# EAGLE library part IC_UC_PIC18FJ2*50 (library dp_devices)
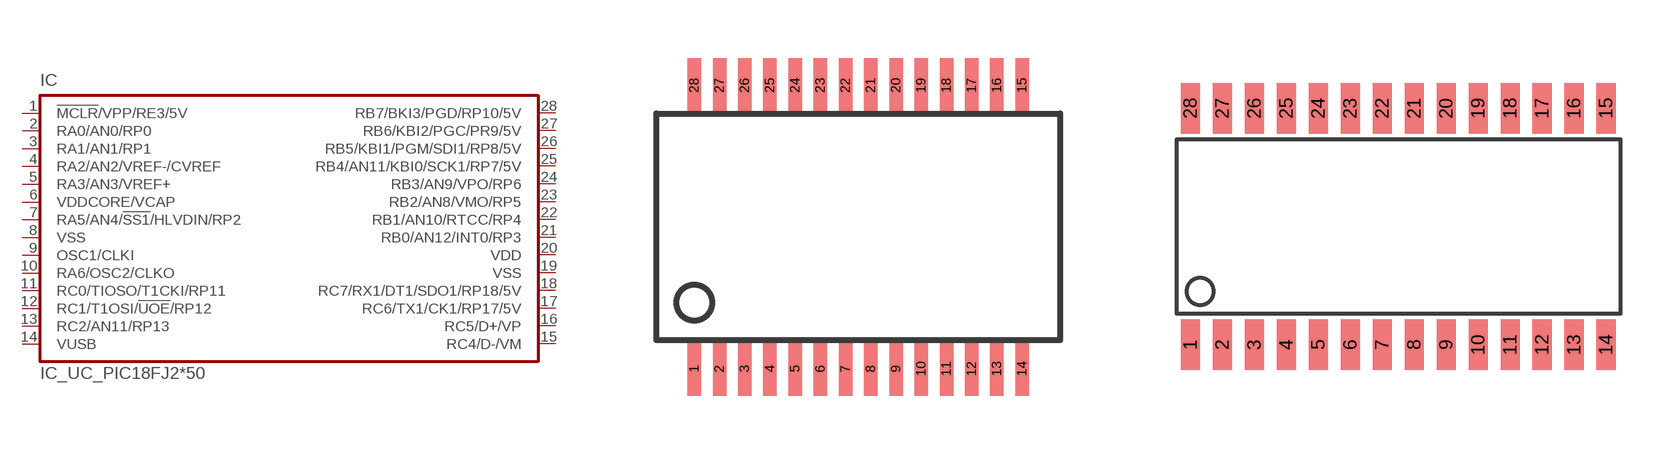
[diagram p73: symbol with the pads of SSOP-28; footprints SSOP-28, SOIC-28W]

Designator prefix IC

## IC_UC_PIC18FJ250-SSOP-28 (PIC18FJ2X50: PIC18FJ2X50)  [SSOP-28]
1  !MCLR!/VPP/RE3/5V  in
2  RA0/AN0/RP0
3  RA1/AN1/RP1
4  RA2/AN2/VREF-/CVREF
5  RA3/AN3/VREF+
6  VDDCORE/VCAP
7  RA5/AN4/!SS1!/HLVDIN/RP2
8  VSS  pwr
9  OSC1/CLKI  in
10  RA6/OSC2/CLKO  out
11  RC0/TIOSO/T1CKI/RP11
12  RC1/T1OSI/!UOE!/RP12
13  RC2/AN11/RP13
14  VUSB
15  RC4/D-/VM
16  RC5/D+/VP
17  RC6/TX1/CK1/RP17/5V
18  RC7/RX1/DT1/SDO1/RP18/5V
19  VSS  pwr
20  VDD  pwr
21  RB0/AN12/INT0/RP3
22  RB1/AN10/RTCC/RP4
23  RB2/AN8/VMO/RP5
24  RB3/AN9/VPO/RP6
25  RB4/AN11/KBI0/SCK1/RP7/5V
26  RB5/KBI1/PGM/SDI1/RP8/5V
27  RB6/KBI2/PGC/PR9/5V
28  RB7/BKI3/PGD/RP10/5V

## IC_UC_PIC18FJ250-SOIC-28-W  [SOIC-28W]
Pads as for SSOP-28

## Footprint SSOP-28 (pad centres in mm)
SSOP28
smd 0.348 x 1.397: 1 -4.225,-3.656; 2 -3.575,-3.656; 3 -2.925,-3.656; 4 -2.275,-3.656; 5 -1.625,-3.656; 6 -0.975,-3.656; 7 -0.325,-3.656; 8 0.325,-3.656; 9 0.975,-3.656; 10 1.625,-3.656; 11 2.275,-3.656; 12 2.925,-3.656; 13 3.575,-3.656; 14 4.225,-3.656; 15 4.225,3.656; 16 3.575,3.656; 17 2.925,3.656; 18 2.275,3.656; 19 1.625,3.656; 20 0.975,3.656; 21 0.325,3.656; 22 -0.325,3.656; 23 -0.975,3.656; 24 -1.625,3.656; 25 -2.275,3.656; 26 -2.925,3.656; 27 -3.575,3.656; 28 -4.225,3.656

## Footprint SOIC-28W (pad centres in mm)
smd 0.762 x 2: 1 -8.89,-4.7; 2 -7.62,-4.7; 3 -6.35,-4.7; 4 -5.08,-4.7; 5 -3.81,-4.7; 6 -2.54,-4.7; 7 -1.27,-4.7; 8 0,-4.7; 9 1.27,-4.7; 10 2.54,-4.7; 11 3.81,-4.7; 12 5.08,-4.7; 13 6.35,-4.7; 14 7.62,-4.7; 15 7.62,4.7; 16 6.35,4.7; 17 5.08,4.7; 18 3.81,4.7; 19 2.54,4.7; 20 1.27,4.7; 21 0,4.7; 22 -1.27,4.7; 23 -2.54,4.7; 24 -3.81,4.7; 25 -5.08,4.7; 26 -6.35,4.7; 27 -7.62,4.7; 28 -8.89,4.7